# EAGLE library part DRV8210 (library DRV8210)
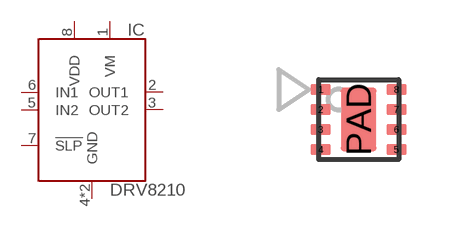
[diagram p0: symbol with the pads of WSON8-2X2; footprint WSON8-2X2]

Designator prefix IC

## DRV8210DSG (MF: Texas Instruments; MPN: DRV8210DSGR), DRV8210PDSG (MF: Texas Instruments; MPN: DRV8210PDSGR)  [WSON8-2X2]
1  VM  pwr
2  OUT1  out
3  OUT2  out
4  GND  pwr
5  IN2  in
6  IN1  in
7  !SLP  in
8  VDD  pwr
PAD  GND  pwr

## Footprint WSON8-2X2 (pad centres in mm)
smd 0.5 x 0.25: 1 -0.95,0.75; 2 -0.95,0.25; 3 -0.95,-0.25; 4 -0.95,-0.75; 5 0.95,-0.75; 6 0.95,-0.25; 7 0.95,0.25; 8 0.95,0.75
smd 0.9 x 1.6: PAD 0,0